# Altium schematic symbol library UMDK.SchLib: 29 symbols
Pins are listed as number, name and electrical type; pins without a type are passive.

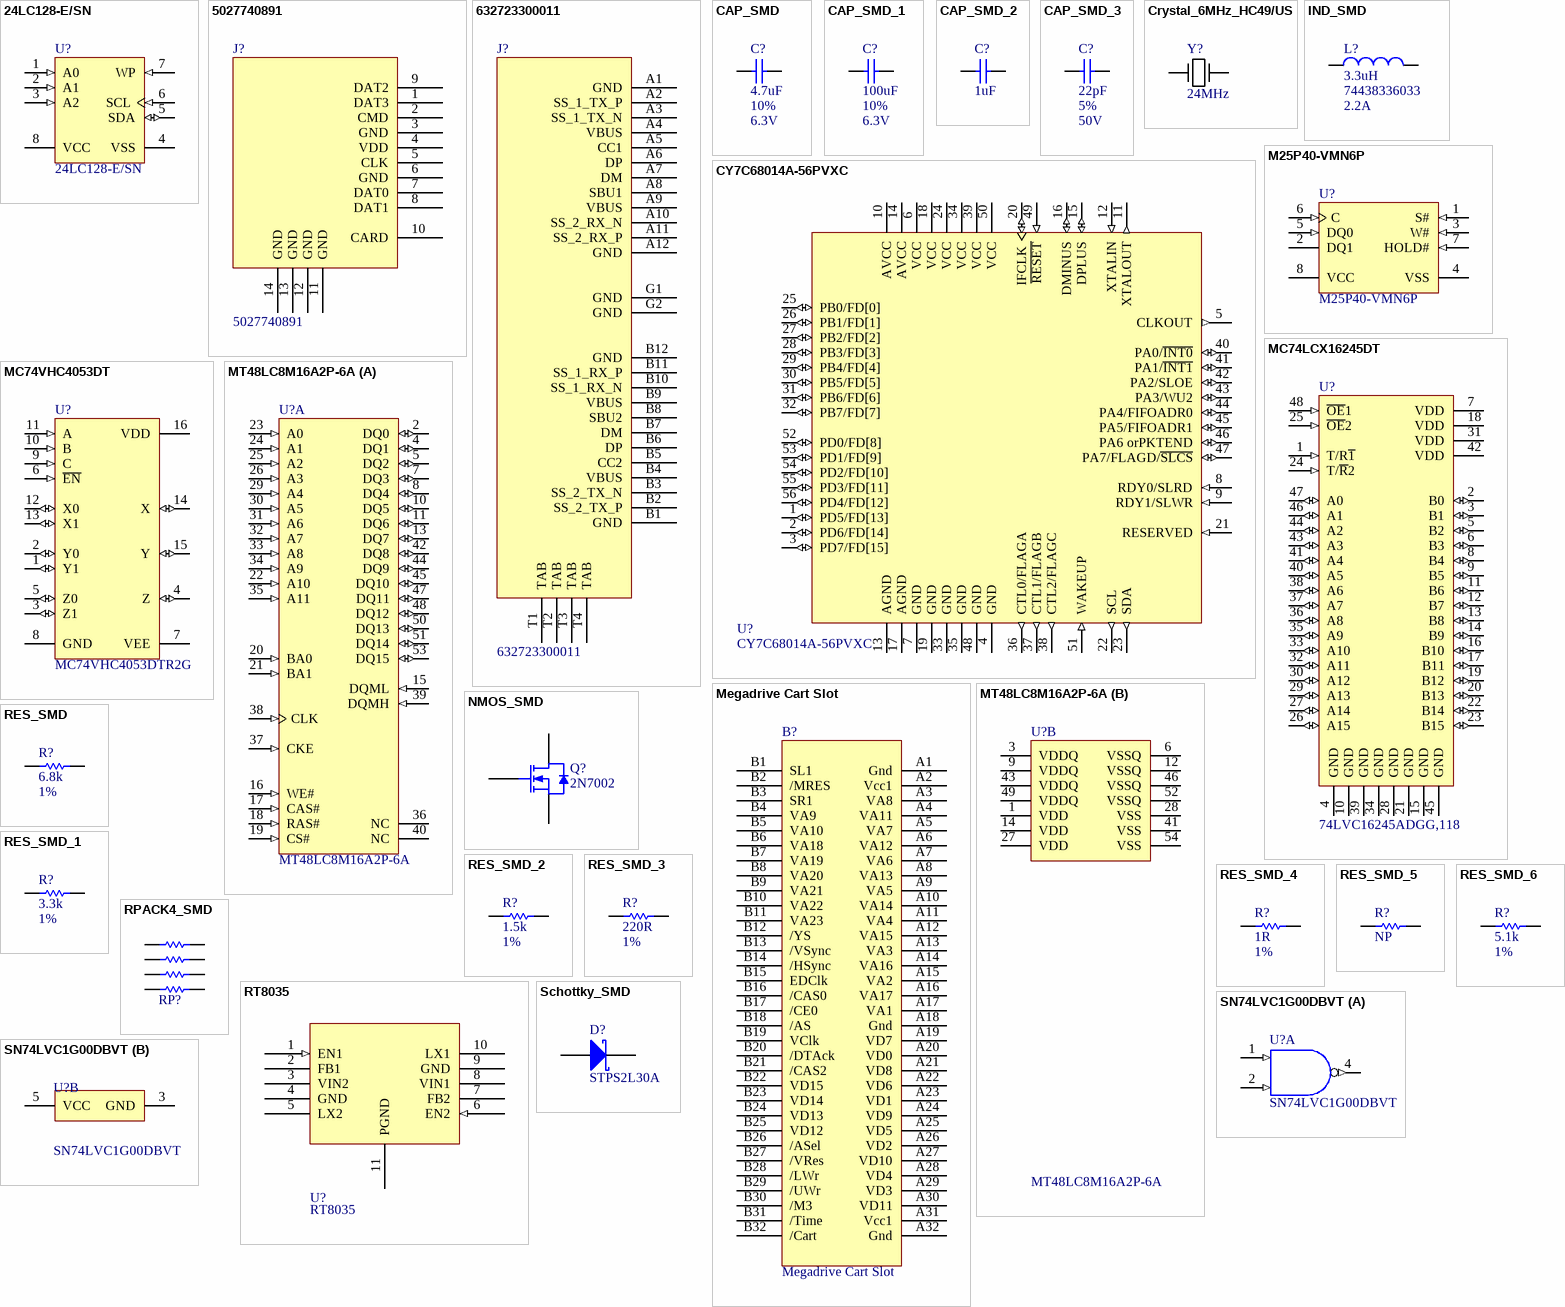
[diagram p0: symbols 24LC128-E/SN to SN74LVC1G00DBVT]

## 24LC128-E/SN
designator U?
128Kbit, 400kHz, 2.5V, I2C Serial EEPROM, 8-Pin SOIC 150mil, Extended Temperature; Manufacturer: Microchip; DatasheetVersion: revR, Apr-2009; PackageVersion: revBB, Aug-2009; PackageReference: SOIC-SN8; PackageDescription: 8-Lead Plastic SMD_All Outline (SN) - Narrow, 3.90mm Body [SOIC]; Supplier 1: Digi-Key; Supplier Part Number 1: 24LC128-E/SN-ND; Supplier 2: Newark; Supplier Part Number 2: 92C7132; Supplier 3: Mouser; Supplier Part Number 3: 579-24LC128-E/SN; Mounting Technology: Surface Mount; PartNumber: 24LC128-E/SN; ComponentLink1Description: MD_Anufacturer URL; ComponentLink1URL: http://www.microchip.com/; ComponentLink2Description: Datasheet; ComponentLink2URL: http://ww1.microchip.com/downloads/en/DeviceDoc/21191R.pdf; ComponentLink3Description: Package Specification; ComponentLink3URL: http://www.microchip.com/stellent/groups/techpub_sg/documents/packagingspec/en012702.pdf; Code_JEDEC: MS-012; Code_IPC: SOIC127P600-8; Manufacturer Part Number: 24LC128-E/SN
footprint SOIC-SN8_N (SOIC, 8-Leads, Body 4.9x3.8mm, Pitch 1.27mm, IPC Medium Density)
footprint SOIC-SN8_L (SOIC, 8-Leads, Body 4.9x3.8mm, Pitch 1.27mm, IPC High Density)
footprint SOIC-SN8_M (SOIC, 8-Leads, Body 4.9x3.8mm, Pitch 1.27mm, IPC Low Density)
pins: 1 A0 (in), 2 A1 (in), 3 A2 (in), 4 VSS (power), 5 SDA (io), 6 SCL (in), 7 WP (in), 8 VCC (power)

## 5027740891
designator J?
Micro SDCard Slot Push Push; Manufacturer: Molex; Manufacturer Part Number: 5027740891
footprint 5027740891 (Molex MicroSD Card Socket)
pins: 1 DAT3, 2 CMD, 3 GND (power), 4 VDD (power), 5 CLK, 6 GND (power), 7 DAT0, 8 DAT1, 9 DAT2, 10 CARD, 11 GND (power), 12 GND (power), 13 GND (power), 14 GND (power)

## 632723300011
designator J?
Manufacturer: Wuerth Elektronik; Manufacturer Part Number: 632723300011
footprint 632723300011 (USB-C Connector)
pins: A1 GND, A2 SS_1_TX_P, A3 SS_1_TX_N, A4 VBUS, A5 CC1, A6 DP, A7 DM, A8 SBU1, A9 VBUS, A10 SS_2_RX_N, A11 SS_2_RX_P, A12 GND, B1 GND, B2 SS_2_TX_P, B3 SS_2_TX_N, B4 VBUS, B5 CC2, B6 DP, B7 DM, B8 SBU2, B9 VBUS, B10 SS_1_RX_N, B11 SS_1_RX_P, B12 GND, G1 GND, G2 GND, T1 TAB, T2 TAB, T3 TAB, T4 TAB

## CAP_SMD
designator C?, comment Tolerance: 10%  Voltage: 6.3V  (hidden comment: 4.7uF)
SMD Capacitor; Manufacturer Part Number: C0603C475K9PAC7867; Manufacturer: Kemet; Value: 4.7uF; Package: =Footprint
footprint C-0402 (Chip Capacitor 0402)
footprint C-1210 (Chip Capacitor 1210)
signal-integrity model CAP_SMD (Ceramic capacitor)
footprint C-0603 (Chip Capacitor 0603)
footprint C-0805 (Chip Capacitor 0805)
footprint C-1206 (Chip Capacitor 1206)
simulation model Capacitor (Model Description)
footprint C-1812 (Chip Capacitor 1812)
pins: 1, 2

## CAP_SMD_1
designator C?, comment Tolerance: 10%  Voltage: 6.3V  (hidden comment: 100uF)
SMD Capacitor; Manufacturer Part Number: C1210C107M9PAC7800; Manufacturer: Kemet; Value: 100uF; Package: =Footprint
footprint C-0402 (Chip Capacitor 0402)
footprint C-1210 (Chip Capacitor 1210)
signal-integrity model CAP_SMD (Ceramic capacitor)
footprint C-0603 (Chip Capacitor 0603)
footprint C-0805 (Chip Capacitor 0805)
footprint C-1206 (Chip Capacitor 1206)
simulation model Capacitor (Model Description)
footprint C-1812 (Chip Capacitor 1812)
pins: 1, 2

## CAP_SMD_2
designator C?, comment 1uF
SMD Capacitor; Manufacturer Part Number: C0402C105K9PAC7867; Manufacturer: Kemet; Tolerance: 10%; Voltage: 6.3V; Value: 1uF; Package: =Footprint
footprint C-0402 (Chip Capacitor 0402)
footprint C-1210 (Chip Capacitor 1210)
signal-integrity model CAP_SMD (Ceramic capacitor)
footprint C-0603 (Chip Capacitor 0603)
footprint C-0805 (Chip Capacitor 0805)
footprint C-1206 (Chip Capacitor 1206)
simulation model Capacitor (Model Description)
footprint C-1812 (Chip Capacitor 1812)
pins: 1, 2

## CAP_SMD_3
designator C?, comment Tolerance: 5%  Voltage: 50V  (hidden comment: 22pF)
SMD Capacitor; Manufacturer Part Number: C0402C220J5GACTU; Manufacturer: Kemet; Value: 22pF; Package: =Footprint
footprint C-0402 (Chip Capacitor 0402)
footprint C-1210 (Chip Capacitor 1210)
signal-integrity model CAP_SMD (Ceramic capacitor)
footprint C-0603 (Chip Capacitor 0603)
footprint C-0805 (Chip Capacitor 0805)
footprint C-1206 (Chip Capacitor 1206)
simulation model Capacitor (Model Description)
footprint C-1812 (Chip Capacitor 1812)
pins: 1, 2

## Crystal_6MHz_HC49/US
designator Y?, comment 24MHz
Resonator Quartz 24.00 MHz 30ppm; Manufacturer: CTS-Frequency Controls; Manufacturer Part Number: ATS240BSM-1E; Frequency Stability: ±50ppm; Load Capacitance: 18pF; Operating Mode: Fundamental; Parameter Name: 0.169" (4.30mm); Package / Case: HC49/US-SM; Ratings: 24.00 MHz; Supplier 1: Digi-Key; Supplier Part Number 1: CTX1124CT-ND; Type: MHz Crystal; Frequency: 24MHz; Frequency Tolerance: ±30ppm; Operating Temperature: -20°C ~ 70°C; Mounting Type: Surface Mount; Size / Dimension: 0.437" L x 0.190" W (11.10mm x 4.83mm); ComponentLink1URL: https://www.ctscorp.com/Files/DataSheets/Passives/FCP/Crystals/crystals-ATS-ATSSM-datasheet.pdf; ComponentLink1Description: Datasheet
footprint CRYSTAL_HC49-US-SM (SMD Crystal HC49/US-SM package)
pins: 1 IN, 2 OUT

## CY7C68014A-56PVXC
designator U?
EZ-USB FX2LP USB Microcontroller Ideal for Battery Powered Applications,16K RAM, 24 I/Os, 56-Pin SSOP, Pb-Free, Commercial Grade; Manufacturer: Cypress; Published: 16-Dec-2005; LatestRevisionDate: 20-Nov-2009; LatestRevisionNote: IPC-7351 Footprint Added.; DatasheetVersion: rev.J, Sep-2005; PackageVersion: Feb-2005; PackageReference: O56; Publisher: Altium Limited; PackageDescription: 56-Pin SMD_All Outline Package 0.635 mm Pitch; Code_JEDEC: MO-118-AB; Code_IPC: SOP635P1035-56; ComponentLink1Description: MD_Anufacturer Link; ComponentLink1URL: http://www.cypress.com/portal/server.pt; ComponentLink2Description: Datasheet; ComponentLink2URL: http://www.cypress.com/portal/server.pt/gateway/PTARGS_0_2_1524_209_259_43/http%3B/sjapp20.mis.cypress.com%3B7001/publishedcontent/publish/design_resources/datasheets/contents/cy7c68014a_5.pdf; Manufacturer Part Number: CY7C68014A-56PVXC
footprint O56_N (SOP, 56-Leads, Body 18.4x7.5mm, Pitch 0.635mm, IPC Medium Density)
footprint O56_L (SOP, 56-Leads, Body 18.4x7.5mm, Pitch 0.635mm, IPC High Density)
footprint O56_M (SOP, 56-Leads, Body 18.4x7.5mm, Pitch 0.635mm, IPC Low Density)
pins: 1 PD5/FD[13] (io) "Port D", 2 PD6/FD[14] (io) "Port D", 3 PD7/FD[15] (io) "Port D", 4 GND (power), 5 CLKOUT (out), 6 VCC (power), 7 GND (power), 8 RDY0/SLRD (in), 9 RDY1/SLWR (in), 10 AVCC (power), 11 XTALOUT (out), 12 XTALIN (in), 13 AGND (power), 14 AVCC (power), 15 DPLUS (io), 16 DMINUS (io), 17 AGND (power), 18 VCC (power), 19 GND (power), 20 IFCLK (io), 21 RESERVED (in), 22 SCL (out), 23 SDA (out), 24 VCC (power), 25 PB0/FD[0] (io) "Port B", 26 PB1/FD[1] (io) "Port B", 27 PB2/FD[2] (io) "Port B", 28 PB3/FD[3] (io) "Port B", 29 PB4/FD[4] (io) "Port B", 30 PB5/FD[5] (io) "Port B", 31 PB6/FD[6] (io) "Port B", 32 PB7/FD[7] (io) "Port B", 33 GND (power), 34 VCC (power), 35 GND (power), 36 CTL0/FLAGA (out), 37 CTL1/FLAGB (out), 38 CTL2/FLAGC (out), 39 VCC (power), 40 PA0/~{INT0} (io) "Port A", 41 PA1/~{INT1} (io) "Port A", 42 PA2/SLOE (io) "Port A", 43 PA3/WU2 (io) "Port A", 44 PA4/FIFOADR0 (io) "Port A", 45 PA5/FIFOADR1 (io) "Port A", 46 PA6 orPKTEND (io) "Port A", 47 PA7/FLAGD/~{SLCS} (io) "Port A", 48 GND (power), 49 ~{RESET} (in), 50 VCC (power), 51 WAKEUP (in), 52 PD0/FD[8] (io) "Port D", 53 PD1/FD[9] (io) "Port D", 54 PD2/FD[10] (io) "Port D", 55 PD3/FD[11] (io) "Port D", 56 PD4/FD[12] (io) "Port D"

## IND_SMD
designator L?, comment Manufacturer Part Number: 74438336033  Current: 2.2A  (hidden comment: 3.3uH)
SMD Inductor; Manufacturer: Wuerth Elektronik; Tolerance: 20%; Value: 3.3uH; Package: =Footprint
simulation model INDUCTOR (Inductor)
signal-integrity model Inductor
footprint I-1812 (SMD Inductor 1812)
footprint I-0805 (Chip Inductor, 2-Leads, Body 2,00x1,25mm, IPC Medium Density)
footprint I-1212 (SMD Inductor 1212)
footprint I-3232 (SMD Inductor 3232)
footprint I-2020 (SMD Inductor 2020)
pins: 1, 2

## M25P40-VMN6P
designator U?
4 Mb (x1) Serial NOR Flash Memory, 75 MHz, 2.3 to 3.6 V, 8-pin SO8 Narrow (MN), Tube; Part Family: M25P; Manufacturer: Micron; Density: 4Mb; Speed: 75 MHz; Voltage: 2.3V-3.6V; DatasheetVersion: Rev. Y; PackageVersion: Rev 11; PackageReference: MICT-MN-8; PackageDescription: 8-Pin SO Narrow, 3.9 X 4.9 mm, Pitch 1.27 mm; Applications: Embedded; Package: SO8 Narrow; Part Status: Production; RoHS: Yes; Type: Data Storage; Width: x1; Mounting Technology: Surface Mount; PartNumber: M25P40-VMN6P; ComponentLink1Description: MD_Anufacturer URL; ComponentLink1URL: http://www.micron.com/; ComponentLink2Description: Datasheet; ComponentLink2URL: http://www.micron.com/~/media/Documents/Products/Data%20Sheet/NOR%20Flash/Serial%20NOR/M25P/M25P40.pdf; ComponentLink3Description: Package Specification; ComponentLink3URL: http://www.micron.com/~/media/Documents/Products/Data%20Sheet/NOR%20Flash/Serial%20NOR/M25P/M25P05A.pdf; Manufacturer Part Number: M25P40-VMN6P
footprint MICT-MN-8_N (SOIC, 8-Leads, Body 5x4mm, Pitch 1.27mm, IPC Medium Density)
pins: 1 S# (in) "Chip select: When the S# input signal is HIGH, the device is deselected and DQ1 is at HIGH impedance. Unless an internal PROGRAM, ERASE, or WRITE STATUS REGISTER cycle is in progress, the device will be in the standby power (See Datasheet)", 2 DQ1 (hiz) "Serial data: The DQ1 output signal is used to transfer data serially out of the device. Data is shifted out on the falling edge of the serial clock (C).", 3 W# (in) "Write protect: The W# input signal is used to freeze the size of the area of memory that is protected against program or erase commands as specified by the values in BP2, BP1, and BP0 bits of the Status Register.", 4 VSS (power) "Ground: Reference for the VCC supply voltage.", 5 DQ0 (in) "Serial data: The DQ0 input signal is used to transfer data serially into the device. It receives commands, addresses, and the data to be programmed. Values are latched on the rising edge of the serial clock (C).", 6 C (in) "Clock: The C input signal provides the timing of the serial interface. Commands, addresses, or data present at serial data input (DQ0) is latched on the rising edge of the serial clock (C). Data on DQ1 changes after the (See Datasheet)", 7 HOLD# (in) "Hold: The HOLD# signal is used to pause any serial communications with the device without deselecting the device. During the hold condition, DQ1 is High-Z. DQ0 and C are "Don’t Care." To start the hold condition, the device (See Datasheet)", 8 VCC (power) "Device core power supply: Source voltage."

## MC74LCX16245DT
designator U?, comment 74LVC16245ADGG,118
Low-Voltage 16-Bit 3-State Non-Inverting Transceiver with 5V-Tolerant Inputs and Outputs; Manufacturer Part Number: 74ALVC164245DGG:11; Manufacturer: Nexperia
footprint 1201-01_N (TSSOP, 48-Leads, Body 12.5x6.1mm, Pitch 0.5mm, IPC Medium Density)
footprint 1201-01_L (TSSOP, 48-Leads, Body 12.5x6.1mm, Pitch 0.5mm, IPC High Density)
footprint 1201-01_M (TSSOP, 48-Leads, Body 12.5x6.1mm, Pitch 0.5mm, IPC Low Density)
pins: 1 T/R~{1} (in), 2 B0 (io), 3 B1 (io), 4 GND (power), 5 B2 (io), 6 B3 (io), 7 VDD (power), 8 B4 (io), 9 B5 (io), 10 GND (power), 11 B6 (io), 12 B7 (io), 13 B8 (io), 14 B9 (io), 15 GND (power), 16 B10 (io), 17 B11 (io), 18 VDD (power), 19 B12 (io), 20 B13 (io), 21 GND (power), 22 B14 (io), 23 B15 (io), 24 T/~{R}2 (in), 25 ~{OE}2 (in), 26 A15 (io), 27 A14 (io), 28 GND (power), 29 A13 (io), 30 A12 (io), 31 VDD (power), 32 A11 (io), 33 A10 (io), 34 GND (power), 35 A9 (io), 36 A8 (io), 37 A7 (io), 38 A6 (io), 39 GND (power), 40 A5 (io), 41 A4 (io), 42 VDD (power), 43 A3 (io), 44 A2 (io), 45 GND (power), 46 A1 (io), 47 A0 (io), 48 ~{OE}1 (in)

## MC74VHC4053DT
designator U?, comment MC74VHC4053DTR2G
Analog Multiplexer/Demultiplexer; Manufacturer: Onsemi; ComponentAvailability: Active; Published: 15-Apr-2002; LatestRevisionDate: 12-Dec-2006; LatestRevisionNote: IPC-7351 Footprint Added.; DatasheetVersion: MD_Ar-2000; PackageVersion: Feb-2000; PackageReference: 948F-01; Publisher: Altium Limited; PackageDescription: 16-Pin Thin SMD_All Outline Package 0.65 mm Pitch; ComponentLink1Description: Manufacturer Link; ComponentLink1URL: http://www.onsemi.com/; ComponentLink2Description: Datasheet; ComponentLink2URL: http://www.onsemi.com/pub/Collateral/MC74VHC4053DT.PDF; Manufacturer Part Number: MC74VHC4053DTR2G
footprint 948F-01_N (TSOP, 16-Leads, Body 5x4.4mm, Pitch 0.65mm, IPC Medium Density)
footprint 948F-01_L (TSOP, 16-Leads, Body 5x4.4mm, Pitch 0.65mm, IPC High Density)
footprint 948F-01_M (TSOP, 16-Leads, Body 5x4.4mm, Pitch 0.65mm, IPC Low Density)
pins: 1 Y1 (io), 2 Y0 (io), 3 Z1 (io), 4 Z (io), 5 Z0 (io), 6 ~{EN} (in), 7 VEE (power), 8 GND (power), 9 C (in), 10 B (in), 11 A (in), 12 X0 (io), 13 X1 (io), 14 X (io), 15 Y (io), 16 VDD (power)

## Megadrive Cart Slot
designator B?  (no BOM)
Megadrive Cart Edge Connector
footprint MD CART EDGE
footprint Edge slot 2x32
footprint Edge slot 2x32 SIMPLE
pins: A1 Gnd, A2 Vcc1, A3 VA8, A4 VA11, A5 VA7, A6 VA12, A7 VA6, A8 VA13, A9 VA5, A10 VA14, A11 VA4, A12 VA15, A13 VA3, A14 VA16, A15 VA2, A16 VA17, A17 VA1, A18 Gnd, A19 VD7, A20 VD0, A21 VD8, A22 VD6, A23 VD1, A24 VD9, A25 VD5, A26 VD2, A27 VD10, A28 VD4, A29 VD3, A30 VD11, A31 Vcc1, A32 Gnd, B1 SL1, B2 /MRES, B3 SR1, B4 VA9, B5 VA10, B6 VA18, B7 VA19, B8 VA20, B9 VA21, B10 VA22, B11 VA23, B12 /YS, B13 /VSync, B14 /HSync, B15 EDClk, B16 /CAS0, B17 /CE0, B18 /AS, B19 VClk, B20 /DTAck, B21 /CAS2, B22 VD15, B23 VD14, B24 VD13, B25 VD12, B26 /ASel, B27 /VRes, B28 /LWr, B29 /UWr, B30 /M3, B31 /Time, B32 /Cart

## MT48LC8M16A2P-6A
designator U?
128Mb PC133 SDR SDRAM, 8Mb x 16, 6ns, 3.3V, 0 to 70 degC, 54-Pin TSOP, Pb-Free; Manufacturer: Micron; CL: CL = 3; Clock Rate: 167 MHz; Op. Temp.: 0C to +70C; DatasheetVersion: Rev.Q; PackageVersion: Rev.Q; PackageReference: MICT-P-54; PackageDescription: 54-Pin Thin SMD_All Outline Package, 10.16 x 22.22 mm, Pitch 0.8 mm; Cycle Time: 6ns; Data Rate: PC133; Density: 128Mb; Depth: 8Mb; RoHS: Yes; Voltage: 3.3V; Width: x16; Mounting Technology: Surface Mount; PartNumber: MT48LC8M16A2P-6A; ComponentLink1Description: MD_Anufacturer URL; ComponentLink1URL: http://www.micron.com/; ComponentLink2Description: Datasheet; ComponentLink2URL: http://www.micron.com/~/media/Documents/Products/Data%20Sheet/DRAM/128mb_x4x8x16_sdram.pdf; ComponentLink3Description: Package Specification; ComponentLink3URL: http://www.micron.com/~/media/Documents/Products/Data%20Sheet/DRAM/128mb_x4x8x16_sdram.pdf; Manufacturer Part Number: MT48LC8M16A2P-6A
footprint MICT-P-54_N (SOP, 54-Leads, Body 22.22x10.16mm, Pitch 0.8mm, IPC Medium Density)
part A pins: 2 DQ0 (io) "Data bus for x16 (pins 4, 7, 10, 13, 42, 45, 48, and 51 are NC for x8; andpins 2, 4, 7, 8, 10, 13, 42, 45, 47, 48, 51, and 53 are NC for x4)", 4 DQ1 (io) "Data bus for x16 (pins 4, 7, 10, 13, 42, 45, 48, and 51 are NC for x8; andpins 2, 4, 7, 8, 10, 13, 42, 45, 47, 48, 51, and 53 are NC for x4)", 5 DQ2 (io) "Data bus for x16 (pins 4, 7, 10, 13, 42, 45, 48, and 51 are NC for x8; andpins 2, 4, 7, 8, 10, 13, 42, 45, 47, 48, 51, and 53 are NC for x4)", 7 DQ3 (io) "Data bus for x16 (pins 4, 7, 10, 13, 42, 45, 48, and 51 are NC for x8; andpins 2, 4, 7, 8, 10, 13, 42, 45, 47, 48, 51, and 53 are NC for x4)", 8 DQ4 (io) "Data bus for x16 (pins 4, 7, 10, 13, 42, 45, 48, and 51 are NC for x8; andpins 2, 4, 7, 8, 10, 13, 42, 45, 47, 48, 51, and 53 are NC for x4)", 10 DQ5 (io) "Data bus for x16 (pins 4, 7, 10, 13, 42, 45, 48, and 51 are NC for x8; andpins 2, 4, 7, 8, 10, 13, 42, 45, 47, 48, 51, and 53 are NC for x4)", 11 DQ6 (io) "Data bus for x16 (pins 4, 7, 10, 13, 42, 45, 48, and 51 are NC for x8; andpins 2, 4, 7, 8, 10, 13, 42, 45, 47, 48, 51, and 53 are NC for x4)", 13 DQ7 (io) "Data bus for x16 (pins 4, 7, 10, 13, 42, 45, 48, and 51 are NC for x8; andpins 2, 4, 7, 8, 10, 13, 42, 45, 47, 48, 51, and 53 are NC for x4)", 15 DQML (in) "DQML corresponds to DQ[7:0] and DQMH corresponds to DQ[15:8]. DQML and DQMH are considered same-state when referenced as DQM.", 16 WE# (in) "define the command being entered.", 17 CAS# (in) "define the command being entered.", 18 RAS# (in) "define the command being entered.", 19 CS# (in) "CS# enables (registered LOW) and disables (registered HIGH) the command decoder. All commands are masked when CS# is registered HIGH, but READ/WRITE bursts alreadyin progress will continue, and DQM operation will retain its (See Datasheet)", 20 BA0 (in) "define to which bank the ACTIVE, READ,WRITE,orPRECHARGE command is being applied.", 21 BA1 (in) "define to which bank the ACTIVE, READ,WRITE,orPRECHARGE command is being applied.", 22 A10 (in) "A[11:0] are sampled during the ACTIVE command (row address A[11:0]) andREAD or WRITE command (column address A[9:0] and A11 for x4; A[9:0] for x8; A[8:0] for x16;with A10 defining auto precharge) to select one location out (See Datasheet)", 23 A0 (in) "A[11:0] are sampled during the ACTIVE command (row address A[11:0]) andREAD or WRITE command (column address A[9:0] and A11 for x4; A[9:0] for x8; A[8:0] for x16;with A10 defining auto precharge) to select one location out (See Datasheet)", 24 A1 (in) "A[11:0] are sampled during the ACTIVE command (row address A[11:0]) andREAD or WRITE command (column address A[9:0] and A11 for x4; A[9:0] for x8; A[8:0] for x16;with A10 defining auto precharge) to select one location out (See Datasheet)", 25 A2 (in) "A[11:0] are sampled during the ACTIVE command (row address A[11:0]) andREAD or WRITE command (column address A[9:0] and A11 for x4; A[9:0] for x8; A[8:0] for x16;with A10 defining auto precharge) to select one location out (See Datasheet)", 26 A3 (in) "A[11:0] are sampled during the ACTIVE command (row address A[11:0]) andREAD or WRITE command (column address A[9:0] and A11 for x4; A[9:0] for x8; A[8:0] for x16;with A10 defining auto precharge) to select one location out (See Datasheet)", 29 A4 (in) "A[11:0] are sampled during the ACTIVE command (row address A[11:0]) andREAD or WRITE command (column address A[9:0] and A11 for x4; A[9:0] for x8; A[8:0] for x16;with A10 defining auto precharge) to select one location out (See Datasheet)", 30 A5 (in) "A[11:0] are sampled during the ACTIVE command (row address A[11:0]) andREAD or WRITE command (column address A[9:0] and A11 for x4; A[9:0] for x8; A[8:0] for x16;with A10 defining auto precharge) to select one location out (See Datasheet)", 31 A6 (in) "A[11:0] are sampled during the ACTIVE command (row address A[11:0]) andREAD or WRITE command (column address A[9:0] and A11 for x4; A[9:0] for x8; A[8:0] for x16;with A10 defining auto precharge) to select one location out (See Datasheet)", 32 A7 (in) "A[11:0] are sampled during the ACTIVE command (row address A[11:0]) andREAD or WRITE command (column address A[9:0] and A11 for x4; A[9:0] for x8; A[8:0] for x16;with A10 defining auto precharge) to select one location out (See Datasheet)", 33 A8 (in) "A[11:0] are sampled during the ACTIVE command (row address A[11:0]) andREAD or WRITE command (column address A[9:0] and A11 for x4; A[9:0] for x8; A[8:0] for x16;with A10 defining auto precharge) to select one location out (See Datasheet)", 34 A9 (in) "A[11:0] are sampled during the ACTIVE command (row address A[11:0]) andREAD or WRITE command (column address A[9:0] and A11 for x4; A[9:0] for x8; A[8:0] for x16;with A10 defining auto precharge) to select one location out (See Datasheet)", 35 A11 (in) "A[11:0] are sampled during the ACTIVE command (row address A[11:0]) andREAD or WRITE command (column address A[9:0] and A11 for x4; A[9:0] for x8; A[8:0] for x16;with A10 defining auto precharge) to select one location out (See Datasheet)", 36 NC "These should be left unconnected. For x4 and x8 parts, G1 is a no connect; it is A12 for 256Mb and 512Mb devices", 37 CKE (in) "CKE activates (HIGH) and deactivates (LOW) the CLK signal. Deactivating theclock provides precharge power-down and SELF REFRESH operation (all banks idle), activepower-down (row active in any bank), or CLOCK SUSPEND (See Datasheet)", 38 CLK (in) "CLK is driven by the system clock. All SDRAM input signals are sampled on the positive edge of CLK. CLK also increments the internal burst counter and controls the output registers.", 39 DQMH (in) "DQML corresponds to DQ[7:0] and DQMH corresponds to DQ[15:8]. DQML and DQMH are considered same-state when referenced as DQM.", 40 NC "These should be left unconnected. For x4 and x8 parts, G1 is a no connect; it is A12 for 256Mb and 512Mb devices.", 42 DQ8 (io) "Data bus for x16 (pins 4, 7, 10, 13, 42, 45, 48, and 51 are NC for x8; andpins 2, 4, 7, 8, 10, 13, 42, 45, 47, 48, 51, and 53 are NC for x4)", 44 DQ9 (io) "Data bus for x16 (pins 4, 7, 10, 13, 42, 45, 48, and 51 are NC for x8; andpins 2, 4, 7, 8, 10, 13, 42, 45, 47, 48, 51, and 53 are NC for x4)", 45 DQ10 (io) "Data bus for x16 (pins 4, 7, 10, 13, 42, 45, 48, and 51 are NC for x8; andpins 2, 4, 7, 8, 10, 13, 42, 45, 47, 48, 51, and 53 are NC for x4)", 47 DQ11 (io) "Data bus for x16 (pins 4, 7, 10, 13, 42, 45, 48, and 51 are NC for x8; andpins 2, 4, 7, 8, 10, 13, 42, 45, 47, 48, 51, and 53 are NC for x4)", 48 DQ12 (io) "Data bus for x16 (pins 4, 7, 10, 13, 42, 45, 48, and 51 are NC for x8; andpins 2, 4, 7, 8, 10, 13, 42, 45, 47, 48, 51, and 53 are NC for x4)", 50 DQ13 (io) "Data bus for x16 (pins 4, 7, 10, 13, 42, 45, 48, and 51 are NC for x8; andpins 2, 4, 7, 8, 10, 13, 42, 45, 47, 48, 51, and 53 are NC for x4)", 51 DQ14 (io) "Data bus for x16 (pins 4, 7, 10, 13, 42, 45, 48, and 51 are NC for x8; andpins 2, 4, 7, 8, 10, 13, 42, 45, 47, 48, 51, and 53 are NC for x4)", 53 DQ15 (io) "Data bus for x16 (pins 4, 7, 10, 13, 42, 45, 48, and 51 are NC for x8; andpins 2, 4, 7, 8, 10, 13, 42, 45, 47, 48, 51, and 53 are NC for x4)"
part B pins: 1 VDD (power) "3.3V +/-0.3V", 3 VDDQ (power) "Isolated DQ power to the die for improved noise immunity", 6 VSSQ (power) "Isolated DQ ground to the die for improved noise immunity", 9 VDDQ (power) "Isolated DQ power to the die for improved noise immunity", 12 VSSQ (power) "Isolated DQ ground to the die for improved noise immunity", 14 VDD (power) "3.3V +/-0.3V", 27 VDD (power) "3.3V +/-0.3V.", 28 VSS (power) "Ground.", 41 VSS (power) "Ground.", 43 VDDQ (power) "Isolated DQ power to the die for improved noise immunity", 46 VSSQ (power) "Isolated DQ ground to the die for improved noise immunity", 49 VDDQ (power) "Isolated DQ power to the die for improved noise immunity", 52 VSSQ (power) "Isolated DQ ground to the die for improved noise immunity", 54 VSS (power) "Ground."

## NMOS_SMD
designator Q?, comment 2N7002
N-Channel Mosfet; Manufacturer: Nexperia; Manufacturer Part Number: 2N7002,215; Package: =Footprint
footprint T-SOT23 (SOT23 3-Leads)
footprint T-SOT323 (SOT323)
pins: 1 GATE, 2 SOURCE, 3 DRAIN

## RES_SMD
designator R?, comment Tolerance: 1%  (hidden comment: 6.8k)
SMD Resistor; Manufacturer Part Number: CRCW04026K80FKEDC; Manufacturer: Vishay; Value: 6.8k; Package: =Footprint
footprint R-0402 (SMD Resistor 0402)
signal-integrity model RES_SMD (Resistor)
footprint R-0603 (SMD Resistor 0603)
footprint R-0805 (SMD Resistor 0805)
footprint R-1206 (SMD Resistor 1206)
simulation model Resistor (Model Description)
footprint R-1210 (SMD Resistor 1210)
pins: 1, 2

## RES_SMD_1
designator R?, comment Tolerance: 1%  (hidden comment: 3.3k)
SMD Resistor; Manufacturer Part Number: CRCW04023K30FKEDC; Manufacturer: Vishay; Value: 3.3k; Package: =Footprint
footprint R-0402 (SMD Resistor 0402)
signal-integrity model RES_SMD (Resistor)
footprint R-0603 (SMD Resistor 0603)
footprint R-0805 (SMD Resistor 0805)
footprint R-1206 (SMD Resistor 1206)
simulation model Resistor (Model Description)
footprint R-1210 (SMD Resistor 1210)
pins: 1, 2

## RES_SMD_2
designator R?, comment 1.5k  Tolerance: 1%
SMD Resistor; Manufacturer Part Number: CRCW04021K50FKEDC; Manufacturer: Vishay; Value: 1.5k; Package: =Footprint
footprint R-0402 (SMD Resistor 0402)
signal-integrity model RES_SMD (Resistor)
footprint R-0603 (SMD Resistor 0603)
footprint R-0805 (SMD Resistor 0805)
footprint R-1206 (SMD Resistor 1206)
simulation model Resistor (Model Description)
footprint R-1210 (SMD Resistor 1210)
pins: 1, 2

## RES_SMD_3
designator R?, comment Tolerance: 1%  (hidden comment: 220R)
SMD Resistor; Manufacturer Part Number: CRCW0402220RFKEDC; Manufacturer: Vishay; Value: 220R; Package: =Footprint
footprint R-0402 (SMD Resistor 0402)
signal-integrity model RES_SMD (Resistor)
footprint R-0603 (SMD Resistor 0603)
footprint R-0805 (SMD Resistor 0805)
footprint R-1206 (SMD Resistor 1206)
simulation model Resistor (Model Description)
footprint R-1210 (SMD Resistor 1210)
pins: 1, 2

## RES_SMD_4
designator R?, comment Tolerance: 1%  (hidden comment: 1R)
SMD Resistor; Manufacturer Part Number: CRCW04021R00FKEDC; Manufacturer: Vishay; Value: 1R; Package: =Footprint
footprint R-0402 (SMD Resistor 0402)
signal-integrity model RES_SMD (Resistor)
footprint R-0603 (SMD Resistor 0603)
footprint R-0805 (SMD Resistor 0805)
footprint R-1206 (SMD Resistor 1206)
simulation model Resistor (Model Description)
footprint R-1210 (SMD Resistor 1210)
pins: 1, 2

## RES_SMD_5
designator R?, comment NP  (no BOM)
SMD Resistor; Value: NP; Package: =Footprint
footprint R-0402 (SMD Resistor 0402)
signal-integrity model RES_SMD (Resistor)
footprint R-0603 (SMD Resistor 0603)
footprint R-0805 (SMD Resistor 0805)
footprint R-1206 (SMD Resistor 1206)
simulation model Resistor (Model Description)
footprint R-1210 (SMD Resistor 1210)
pins: 1, 2

## RES_SMD_6
designator R?, comment Tolerance: 1%  (hidden comment: 5.1k)
SMD Resistor; Manufacturer Part Number: CRCW04025K10FKEDC; Manufacturer: Vishay; Value: 5.1k; Package: =Footprint
footprint R-0402 (SMD Resistor 0402)
signal-integrity model RES_SMD (Resistor)
footprint R-0603 (SMD Resistor 0603)
footprint R-0805 (SMD Resistor 0805)
footprint R-1206 (SMD Resistor 1206)
simulation model Resistor (Model Description)
footprint R-1210 (SMD Resistor 1210)
pins: 1, 2

## RPACK4_SMD
designator RP?, comment 270R  (value not drawn)
SMD Resistor Pack of 4; Manufacturer Part Number: CAT16-271J4LF; Manufacturer: Bourns; Tolerance: 5%; Package: =Footprint; Value: 270R
footprint RP4-1206 (Resistor Pack, Body 1.6x3.2mm, 4x0603, IPC Medium Density)
signal-integrity model Model Name (Model Description)
footprint RP4-0804 (Resistor Pack, Body 1.0x2.0mm)
pins: 1, 2, 3, 4, 5, 6, 7, 8

## RT8035
designator U?
DCDC Synchronous buck converter; Manufacturer Part Number: RT8035GQW; Manufacturer: Richtek USA Inc.
footprint 10SON
pins: 1 EN1 (in), 2 FB1, 3 VIN2 (power), 4 GND (power), 5 LX2 (power), 6 EN2 (in), 7 FB2, 8 VIN1 (power), 9 GND (power), 10 LX1 (power), 11 PGND (power)

## Schottky_SMD
designator D?, comment Manufacturer Part Number: STPS2L30A  (hidden comment: B230A-13-F)
Schottky Diode; Manufacturer: ST Microelectronics; Package: =Footprint
footprint D-SMA (DO-214-AC/SMA)
signal-integrity model Schottky_SMD (Schottky Diode)
footprint D-SOD-123 (SOD-123)
footprint D-SOD-323 (SOD-323)
footprint D-SMB (DO-214-AA/SMB)
pins: 1 K, 2 A

## SN74LVC1G00DBVT
designator U?
Single 2 Input Positive NAND Gate, DBV0005A, SMALL T&R; Manufacturer: Texas Instruments; VCC(Min)(V): 1.65; VCC(Max)(V): 5.5; Output Type: CMOS; ICC @ Nom Voltage(Max)(mA): 0.01; Input Type: CMOS/TTL; Bits(#): 1; F @ Nom Voltage(Max)(Mhz): 150; Rating: Catalog; Technology Family: LVC; Voltage(Nom)(V): 1.8,2.5,3.3,5; Schmitt Trigger: No; Output Drive (IOL/IOH)(Max)(mA): 32/-32; tpd @ Nom Voltage(Max)(ns): 9,5.5,4.7,4; Logic: True; DatasheetVersion: SCES212AB; PackageReference: DBV0005A; Supplier 1: Mouser; Supplier Part Number 1: 595-SN74LVC1G00DBVT; Supplier 2: Digi-Key; Supplier Part Number 2: 296-32286-2-ND; Supplier 3: Digi-Key; Supplier Part Number 3: 296-32286-1-ND; Supplier 4: Digi-Key; Supplier Part Number 4: 296-32286-6-ND; Generic Part Number: SN74LVC1G00; Operating Temperature Range(C): -40 to 125,-40 to 85; Gate Type: NAND; Sub-Family: NAND Gate; 3-State Output: No; PartNumber: SN74LVC1G00DBVT; ComponentLink1Description: MD_Anufacturer URL; ComponentLink1URL: http://www.ti.com/; ComponentLink2Description: Datasheet; ComponentLink2URL: http://www.ti.com/lit/ds/symlink/sn74lvc1g00.pdf; Manufacturer Part Number: SN74LVC1G00DBVT
footprint DBV0005A_N (SOT23, 5-Leads, Body 3.05x1.75mm, Pitch 0.95mm, IPC Medium Density)
footprint DBV0005A_M (SOT23, 5-Leads, Body 3.05x1.75mm, Pitch 0.95mm, IPC Low Density)
footprint DBV0005A_L (SOT23, 5-Leads, Body 3.05x1.75mm, Pitch 0.95mm, IPC High Density)
part A pins: 1 A (in) "Input A", 2 B (in) "Input B", 4 Y (out) "Output Y"
part B pins: 3 GND (power) "Ground Pin", 5 VCC (power) "Power Pin"

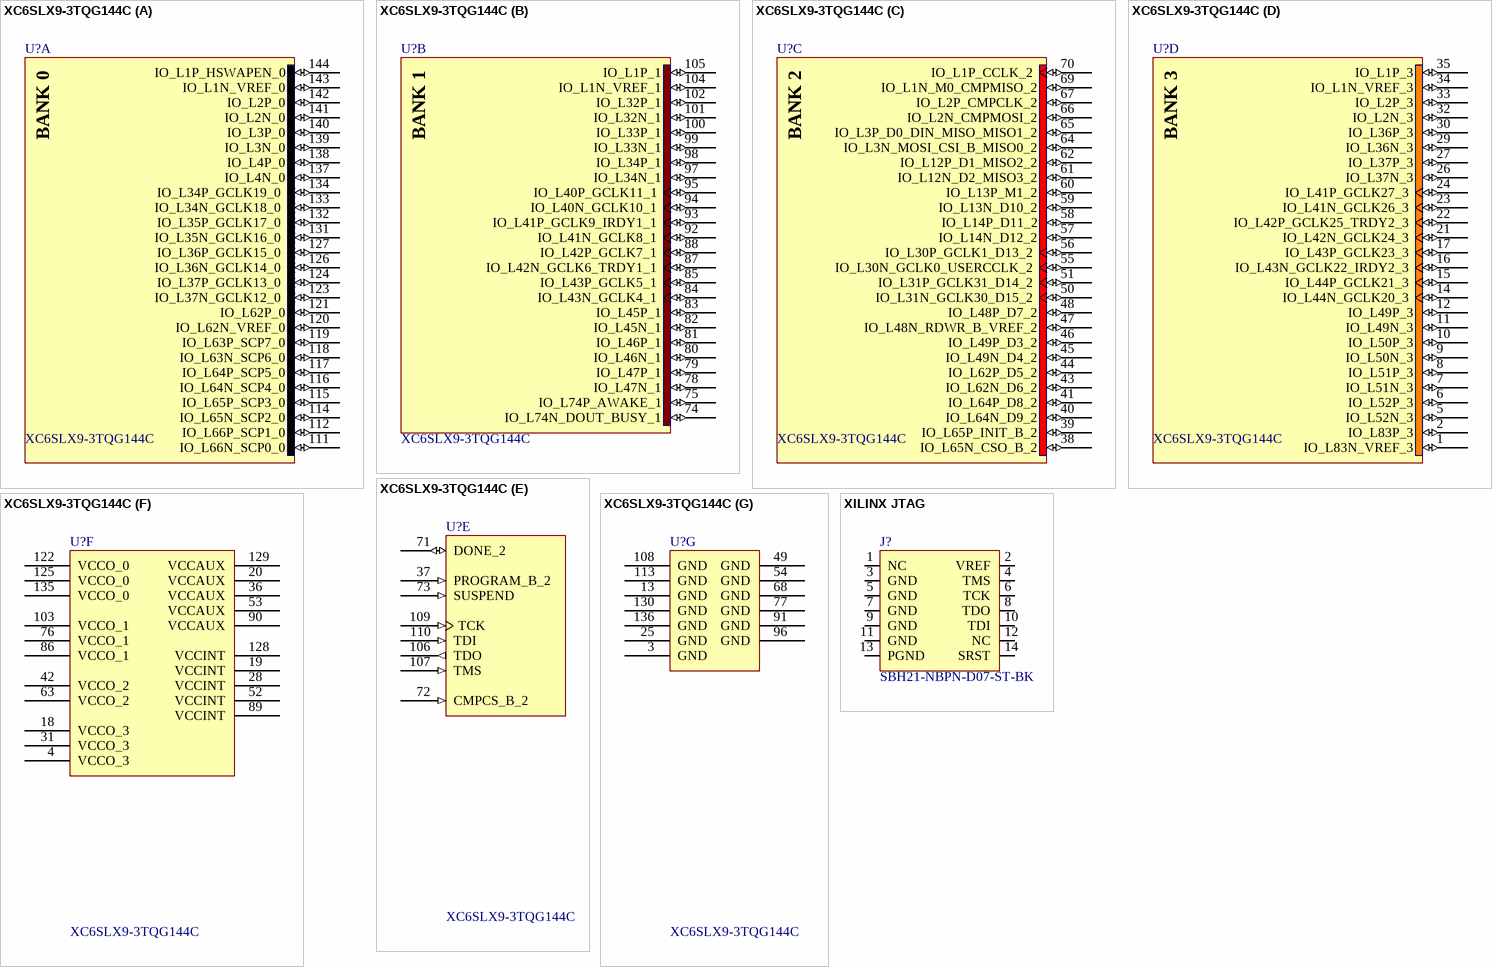
[diagram p1: symbols XC6SLX9-3TQG144C to XILINX JTAG]

## XC6SLX9-3TQG144C
designator U?
Spartan-6 LX 1.2V FPGA, 102 User I/Os, 144-Pin TQFP (0.5mm Pitch), Speed Grade 3, Commercial Grade, Pb-Free; Manufacturer: Xilinx; DatasheetVersion: ver1.6, Nov-2010; PackageVersion: ver1.2, Jun-2004; PackageReference: TQG144; PackageDescription: 144-Pin Thin Quad Flat Pack (TQG144) - Pb-Free; Code_JEDEC: MS-026-BFB; ComponentLink1Description: MD_Anufacturer URL; ComponentLink1URL: http://www.xilinx.com/; ComponentLink2Description: Spartan-6 Datasheet; ComponentLink2URL: http://www.xilinx.com/support/documentation/data_sheets/ds160.pdf; ComponentLink3Description: Spartan-6 Documents; ComponentLink3URL: http://www.xilinx.com/support/documentation/spartan-6.htm; Manufacturer Part Number: XC6SLX9-3TQG144C
footprint TQG144_N (Thin QFP, 144-Leads, Body 20x20mm, Pitch 0.5mm, IPC Medium Density)
footprint TQG144_L (Thin QFP, 144-Leads, Body 20x20mm, Pitch 0.5mm, IPC High Density)
footprint TQG144_M (Thin QFP, 144-Leads, Body 20x20mm, Pitch 0.5mm, IPC Low Density)
part A pins: 111 IO_L66N_SCP0_0 (io), 112 IO_L66P_SCP1_0 (io), 114 IO_L65N_SCP2_0 (io), 115 IO_L65P_SCP3_0 (io), 116 IO_L64N_SCP4_0 (io), 117 IO_L64P_SCP5_0 (io), 118 IO_L63N_SCP6_0 (io), 119 IO_L63P_SCP7_0 (io), 120 IO_L62N_VREF_0 (io), 121 IO_L62P_0 (io), 123 IO_L37N_GCLK12_0 (io), 124 IO_L37P_GCLK13_0 (io), 126 IO_L36N_GCLK14_0 (io), 127 IO_L36P_GCLK15_0 (io), 131 IO_L35N_GCLK16_0 (io), 132 IO_L35P_GCLK17_0 (io), 133 IO_L34N_GCLK18_0 (io), 134 IO_L34P_GCLK19_0 (io), 137 IO_L4N_0 (io), 138 IO_L4P_0 (io), 139 IO_L3N_0 (io), 140 IO_L3P_0 (io), 141 IO_L2N_0 (io), 142 IO_L2P_0 (io), 143 IO_L1N_VREF_0 (io), 144 IO_L1P_HSWAPEN_0 (io)
part B pins: 74 IO_L74N_DOUT_BUSY_1 (io), 75 IO_L74P_AWAKE_1 (io), 78 IO_L47N_1 (io), 79 IO_L47P_1 (io), 80 IO_L46N_1 (io), 81 IO_L46P_1 (io), 82 IO_L45N_1 (io), 83 IO_L45P_1 (io), 84 IO_L43N_GCLK4_1 (io), 85 IO_L43P_GCLK5_1 (io), 87 IO_L42N_GCLK6_TRDY1_1 (io), 88 IO_L42P_GCLK7_1 (io), 92 IO_L41N_GCLK8_1 (io), 93 IO_L41P_GCLK9_IRDY1_1 (io), 94 IO_L40N_GCLK10_1 (io), 95 IO_L40P_GCLK11_1 (io), 97 IO_L34N_1 (io), 98 IO_L34P_1 (io), 99 IO_L33N_1 (io), 100 IO_L33P_1 (io), 101 IO_L32N_1 (io), 102 IO_L32P_1 (io), 104 IO_L1N_VREF_1 (io), 105 IO_L1P_1 (io)
part C pins: 38 IO_L65N_CSO_B_2 (io), 39 IO_L65P_INIT_B_2 (io), 40 IO_L64N_D9_2 (io), 41 IO_L64P_D8_2 (io), 43 IO_L62N_D6_2 (io), 44 IO_L62P_D5_2 (io), 45 IO_L49N_D4_2 (io), 46 IO_L49P_D3_2 (io), 47 IO_L48N_RDWR_B_VREF_2 (io), 48 IO_L48P_D7_2 (io), 50 IO_L31N_GCLK30_D15_2 (io), 51 IO_L31P_GCLK31_D14_2 (io), 55 IO_L30N_GCLK0_USERCCLK_2 (io), 56 IO_L30P_GCLK1_D13_2 (io), 57 IO_L14N_D12_2 (io), 58 IO_L14P_D11_2 (io), 59 IO_L13N_D10_2 (io), 60 IO_L13P_M1_2 (io), 61 IO_L12N_D2_MISO3_2 (io), 62 IO_L12P_D1_MISO2_2 (io), 64 IO_L3N_MOSI_CSI_B_MISO0_2 (io), 65 IO_L3P_D0_DIN_MISO_MISO1_2 (io), 66 IO_L2N_CMPMOSI_2 (io), 67 IO_L2P_CMPCLK_2 (io), 69 IO_L1N_M0_CMPMISO_2 (io), 70 IO_L1P_CCLK_2 (io)
part D pins: 1 IO_L83N_VREF_3 (io), 2 IO_L83P_3 (io), 5 IO_L52N_3 (io), 6 IO_L52P_3 (io), 7 IO_L51N_3 (io), 8 IO_L51P_3 (io), 9 IO_L50N_3 (io), 10 IO_L50P_3 (io), 11 IO_L49N_3 (io), 12 IO_L49P_3 (io), 14 IO_L44N_GCLK20_3 (io), 15 IO_L44P_GCLK21_3 (io), 16 IO_L43N_GCLK22_IRDY2_3 (io), 17 IO_L43P_GCLK23_3 (io), 21 IO_L42N_GCLK24_3 (io), 22 IO_L42P_GCLK25_TRDY2_3 (io), 23 IO_L41N_GCLK26_3 (io), 24 IO_L41P_GCLK27_3 (io), 26 IO_L37N_3 (io), 27 IO_L37P_3 (io), 29 IO_L36N_3 (io), 30 IO_L36P_3 (io), 32 IO_L2N_3 (io), 33 IO_L2P_3 (io), 34 IO_L1N_VREF_3 (io), 35 IO_L1P_3 (io)
part E pins: 37 PROGRAM_B_2 (in), 71 DONE_2 (io), 72 CMPCS_B_2 (in), 73 SUSPEND (in), 106 TDO (out), 107 TMS (in), 109 TCK (in), 110 TDI (in)
part F pins: 4 VCCO_3 (power), 18 VCCO_3 (power), 19 VCCINT (power), 20 VCCAUX (power), 28 VCCINT (power), 31 VCCO_3 (power), 36 VCCAUX (power), 42 VCCO_2 (power), 52 VCCINT (power), 53 VCCAUX (power), 63 VCCO_2 (power), 76 VCCO_1 (power), 86 VCCO_1 (power), 89 VCCINT (power), 90 VCCAUX (power), 103 VCCO_1 (power), 122 VCCO_0 (power), 125 VCCO_0 (power), 128 VCCINT (power), 129 VCCAUX (power), 135 VCCO_0 (power)
part G pins: 3 GND (power), 13 GND (power), 25 GND (power), 49 GND (power), 54 GND (power), 68 GND (power), 77 GND (power), 91 GND (power), 96 GND (power), 108 GND (power), 113 GND (power), 130 GND (power), 136 GND (power)
part A text: BANK 0
part B text: BANK 1
part C text: BANK 2
part D text: BANK 3

## XILINX JTAG
designator J?, comment SBH21-NBPN-D07-ST-BK  (no BOM)
Manufacturer: Sullins Connector Solutions; Manufacturer Part Number: SBH21-NBPN-D07-ST-BK
footprint 0878311420 (IDC_14_2mm)
footprint AWHW2 14G-0202 (IDC_14_2mm)
footprint SBH21-NBPN-D07-ST-BK (IDC_14_2mm)
pins: 1 NC, 2 VREF, 3 GND, 4 TMS, 5 GND, 6 TCK, 7 GND, 8 TDO, 9 GND, 10 TDI, 11 GND, 12 NC, 13 PGND, 14 SRST